# Altium footprint library belfuse_0zre0200ff.PcbLib: 1 footprints
Each footprint in its own frame and in the unit in brackets; x right, y up, seen from the top. Pads: shape width x height; smd on the part's side, far side on the other; paste and mask are expansions set on the pad; w line width, h text height; cw(c..) or ccw(c..) is an arc to the next point about the centre after c.
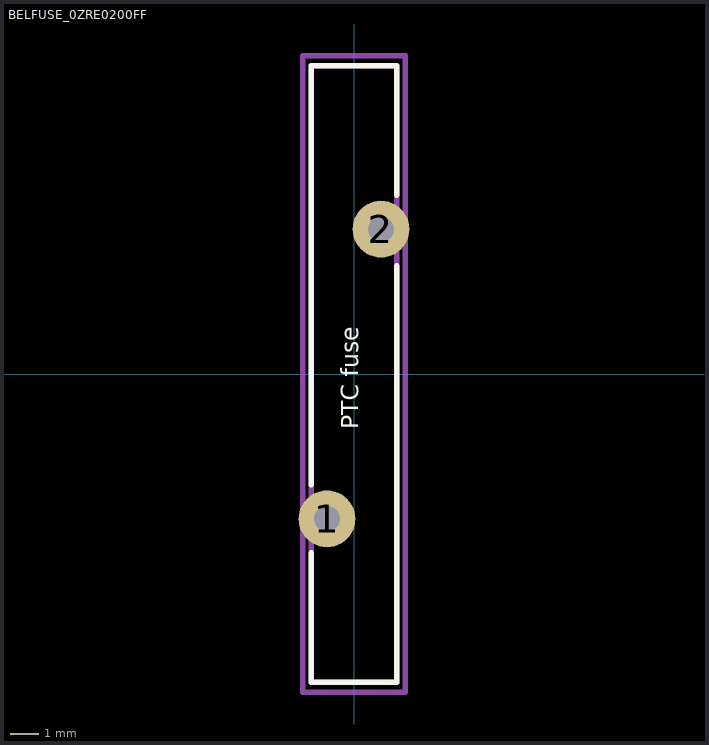
[diagram p0: the footprint, top view; thin cyan lines are the x and y axes]

## BELFUSE_0ZRE0200FF [mm]
height 33.8
pads (2):
  round 2 hole 0.9: 1(-0.95,-5.1) 2(0.95,5.1)
Top Overlay:
  lines w0.2: -1.509,-6.3 -1.509,-10.85 1.509,-10.85 1.509,3.8 ; -1.509,-3.9 -1.509,10.85 1.509,10.85 1.509,6.3
  text "PTC fuse" at 0.15,-1.95 h0.6
Top 3D Body:
  lines w0.2: -1.509,-10.85 1.509,-10.85 1.509,10.85 -1.509,10.85 -1.509,-10.85
Top Courtyard:
  lines w0.2: -1.8,-11.2 1.8,-11.2 1.8,11.2 -1.8,11.2 -1.8,-11.2
Top Designator:
  text ".Designator" at 0.15,-1.35 h0.6
3D body "0ZRE0200FF1A.step": height 24.52, standoff -7.58, extent -1.509,-10.85 1.509,10.85